# Altium footprint library FootPrintLib_2.PcbLib: 173 footprints (part 11 of 11)
Each footprint in its own frame and in the unit in brackets; x right, y up, seen from the top. Pads: shape width x height; smd on the part's side, far side on the other; paste and mask are expansions set on the pad; w line width, h text height; cw(c..) or ccw(c..) is an arc to the next point about the centre after c.
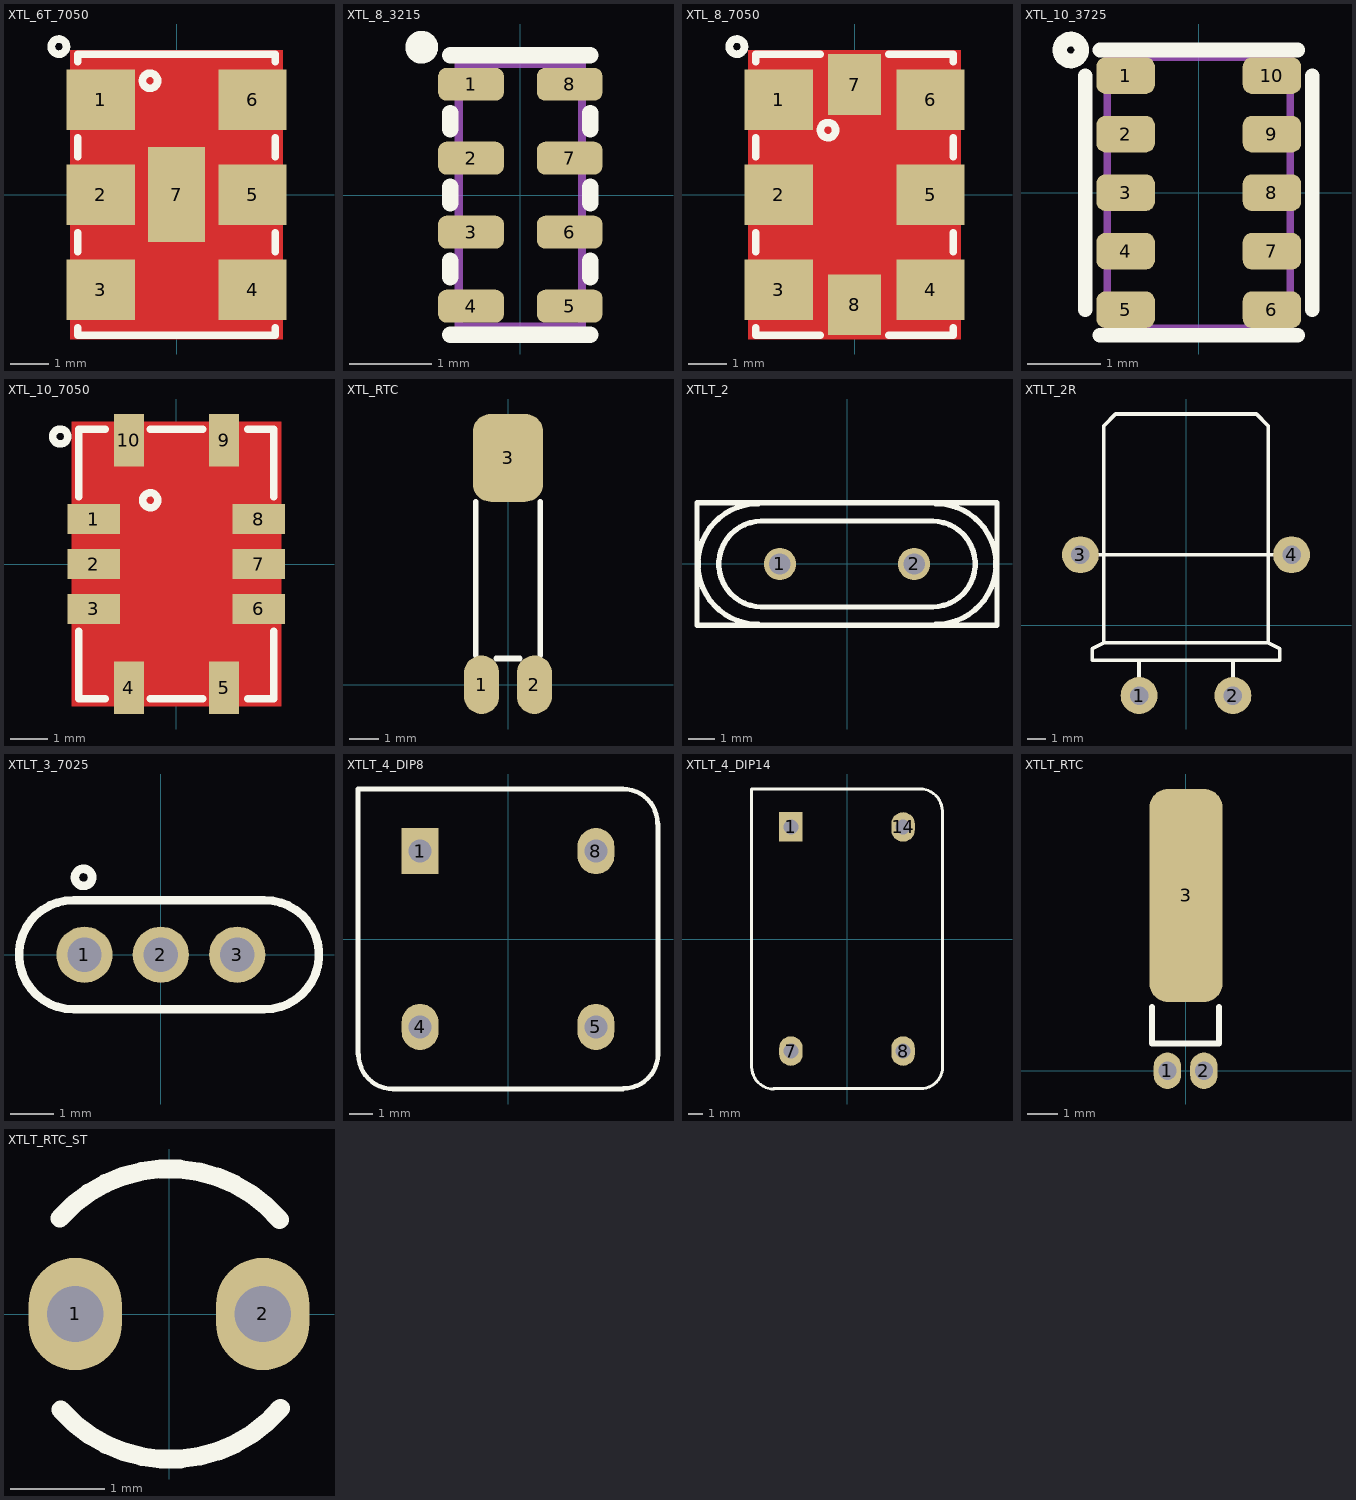
[diagram p10: the footprints below, top view; thin cyan lines are the x and y axes]

## XTL_6T_7050 [mm] "SiT9102 7X5 WITH CENTER-PAD"
pads (7):
  rect 1.8x1.6 smd: 1(-2,2.5) 2(-2,0) 3(-2,-2.5) 4(2,-2.5) 5(2,0) 6(2,2.5)
  rect 1.5x2.5 smd: 7(0,0)
Top Layer:
  pour cut-out: -2.8,3.8 -2.8,-3.8 2.8,-3.8 2.8,3.8
Top Overlay:
  circle w0.2: c-3.1,3.9 r0.2
  circle w0.2: c-0.7,3 r0.2
  lines w0.2: -2.6,-3.5 -2.6,-3.7 2.6,-3.7 2.6,-3.5 ; -2.6,-1.5 -2.6,-1 ; -2.6,1 -2.6,1.5 ; -2.6,3.5 -2.6,3.7 2.6,3.7 2.6,3.5 ; 2.6,-1.5 2.6,-1 ; 2.6,1 2.6,1.5
Mechanical 13:
  circle w0.1: c-1.55,2.55 r0.5
  lines w0.1: -2.5,-3.5 2.5,-3.5 2.5,3.5 -2.5,3.5 -2.5,-3.5
3D body: height 1.5, standoff 0.01, extent -2.5,-3.5 2.5,3.5

## XTL_8_3215 [mm] "8-CLCC, 3.2X1.5X0.8mm, 0.9mm pitch"
height 0.8
pads (8):
  rrect50% 0.8x0.4 smd mask+0.1: 1(-0.6,1.35) 2(-0.6,0.45) 3(-0.6,-0.45) 4(-0.6,-1.35) 5(0.6,-1.35) 6(0.6,-0.45) 7(0.6,0.45) 8(0.6,1.35)
Top Overlay:
  circle w0.2: c-1.2,1.8 r0.1
  lines w0.2: -0.85,-1.7 0.85,-1.7 ; -0.85,-1 -0.85,-0.8 ; -0.85,-0.1 -0.85,0.1 ; -0.85,0.8 -0.85,1 ; -0.85,1.7 0.85,1.7 ; 0.85,-1 0.85,-0.8 ; 0.85,-0.1 0.85,0.1 ; 0.85,0.8 0.85,1
Mechanical 13:
  lines w0.1: -0.75,-1.6 -0.75,1.6 0.75,1.6 0.75,-1.6 -0.75,-1.6
3D body "AB-RTCMC-32.768kHz-AIGZ-S7.STEP": height 0.8, standoff 0, extent -0.75,-1.6 0.75,1.6

## XTL_8_7050 [mm] "CRYSTAL OSCILLATOR 7X5mm"
pads (8):
  rect 1.8x1.6 smd: 1(-2,2.5) 2(-2,0) 3(-2,-2.5) 4(2,-2.5) 5(2,0) 6(2,2.5)
  rect 1.4x1.6 smd: 7(0,2.9) 8(0,-2.9)
Top Layer:
  pour cut-out: -2.8,3.8 -2.8,-3.8 2.8,-3.8 2.8,3.8
Top Overlay:
  circle w0.2: c-3.1,3.9 r0.2
  circle w0.2: c-0.7,1.7 r0.2
  lines w0.2: -2.6,-3.5 -2.6,-3.7 -0.9,-3.7 ; -2.6,-1.5 -2.6,-1 ; -2.6,1 -2.6,1.5 ; -2.6,3.5 -2.6,3.7 -0.9,3.7 ; 0.9,-3.7 2.6,-3.7 2.6,-3.5 ; 0.9,3.7 2.6,3.7 2.6,3.5 ; 2.6,-1.5 2.6,-1 ; 2.6,1 2.6,1.5
Mechanical 13:
  circle w0.1: c-1.55,2.55 r0.5
  lines w0.1: -2.5,-3.5 2.5,-3.5 2.5,3.5 -2.5,3.5 -2.5,-3.5
3D body: height 1.5, standoff 0.01, extent -2.5,-3.5 2.5,3.5

## XTL_10_3725 [mm] "10-VDFN, 3.7X2.5X0.9mm, 0.8mm pitch"
height 0.8
pads (10):
  rrect50% 0.8x0.5 smd mask+0.1: 1(-1,1.6) 2(-1,0.8) 3(-1,0) 4(-1,-0.8) 5(-1,-1.6) 6(1,-1.6) 7(1,-0.8) 8(1,0) 9(1,0.8) 10(1,1.6)
Top Overlay:
  circle w0.2: c-1.75,1.95 r0.15
  lines w0.2: -1.55,-1.6 -1.55,1.6 ; -1.35,-1.95 1.35,-1.95 ; -1.35,1.95 1.35,1.95 ; 1.55,-1.6 1.55,1.6
Mechanical 13:
  lines w0.1: -1.25,-1.85 -1.25,1.85 1.25,1.85 1.25,-1.85 -1.25,-1.85
3D body "AB-RTCMC-32.768kHz-EOA9-S3.STEP": height 0.9, standoff 0, extent -1.25,-1.85 1.25,1.85

## XTL_10_7050 [mm] "CRYSTAL OSCILLATOR 7.0X5.0mm 10PAD"
pads (10):
  rect 1.4x0.8 smd: 1(-2.2,1.2) 2(-2.2,0) 3(-2.2,-1.2) 6(2.2,-1.2) 7(2.2,0) 8(2.2,1.2)
  rect 0.8x1.4 smd: 4(-1.27,-3.3) 5(1.27,-3.3) 9(1.27,3.3) 10(-1.27,3.3)
Top Layer:
  pour cut-out: -2.8,3.8 -2.8,-3.8 2.8,-3.8 2.8,3.8
Top Overlay:
  circle w0.2: c-3.1,3.4 r0.2
  circle w0.2: c-0.7,1.7 r0.2
  lines w0.2: -2.6,-1.8 -2.6,-3.6 -1.9,-3.6 ; -2.6,1.8 -2.6,3.6 -1.9,3.6 ; -0.7,-3.6 0.7,-3.6 ; -0.7,3.6 0.7,3.6 ; 1.9,-3.6 2.6,-3.6 2.6,-1.8 ; 1.9,3.6 2.6,3.6 2.6,1.8
Mechanical 13:
  circle w0.1: c-1.55,2.55 r0.5
  lines w0.1: -2.5,-3.5 2.5,-3.5 2.5,3.5 -2.5,3.5 -2.5,-3.5
3D body "7X5-CFPT-126_v14.step": height 2, standoff 0, extent -2.5,-3.5 2.5,3.5

## XTL_RTC [mm] "AB26TRB, AB26TRJ, AB26TRQ"
height 2.3
pads (3):
  oval 1.2x2 smd mask+0.1: 1(-0.9,0) 2(0.9,0)
  rrect50% 2.4x3 smd: 3(0,7.75)
Top Overlay:
  lines w0.2: -1.1,1 -1.1,6.25 ; -0.4,0.9 0.4,0.9 ; 1.1,1 1.1,6.25
3D body "User Library-DT-26-1.step": height 2, standoff -2, extent -1,-0.1 1,7.04

## XTLT_2 [mm] "Crystal PTH HC49S"
height 5.08
pads (2):
  round 1.2 / inner oval 1.2x2 / far side oval 1.2x2 hole 0.8: 1(-2.5,0)
  round 1.2 / inner round 1.2 / far side oval 1.2x2 hole 0.8: 2(2.5,0)
Top Overlay:
  lines w0.2: -3.302,-2.25 cw(c-3.302,0) -3.302,2.25 ; -3.2,-1.6 3.2,-1.6 ; -3.2,1.6 3.2,1.6 ; -3.175,-1.6 cw(c-3.175,0) -3.175,1.6 ; 3.175,-1.6 ccw(c3.175,0) 3.175,1.6 ; 3.302,-2.25 ccw(c3.302,0) 3.302,2.25 ; -5.588,-2.286 5.588,-2.286 5.588,2.286 -5.588,2.286 -5.588,-2.286
3D body "HC-49_LT_THT_16MHz.step": height 3.6, standoff -1.99, extent -5.668,-2.325 5.669,2.325

## XTLT_2R [mm] "Crystal PTH HC49S 11x4.5x13mm, bended"
height 13
pads (4):
  round 2 hole 1: 1(-2.54,-3.81) 2(2.54,-3.81) 3(-5.715,3.81) 4(5.715,3.81)
Top Overlay:
  circle w0.2: c5.715,3.81 r0.635
  circle w0.2: c-5.715,3.81 r0.635
  lines w0.2: -5.715,3.81 5.715,3.81 ; -2.54,-3.81 -2.54,-1.905 ; 2.54,-3.81 2.54,-1.905 ; -4.445,-0.953 -5.08,-1.27 -5.08,-1.905 5.08,-1.905 5.08,-1.27 4.445,-0.953 ; -4.445,-0.953 -4.445,10.795 -3.81,11.43 3.81,11.43 4.445,10.795 4.445,-0.953 ; -4.445,-0.953 4.445,-0.953

## XTLT_3_7025 [mm] "Crystal 3p, pitch:1.8mm, 7x2.5mm"
pads (3):
  round 1.308 hole 0.8: 1(-1.778,0) 2(0,0) 3(1.778,0)
Top Overlay:
  circle w0.2: c-1.8,1.8 r0.2
  lines w0.2: -2.032,-1.27 cw(c-2.032,0) -2.032,1.27 2.413,1.27 cw(c2.413,0) 2.413,-1.27 -2.032,-1.27

## XTLT_4_DIP8 [mm] "HO-22, 13X13mm, Crystal oscillator DIP-8"
pads (4):
  rect 1.6x2 hole 1: 1(-3.81,3.81)
  oval 1.6x2 hole 1: 4(-3.81,-3.81) 5(3.81,-3.81) 8(3.81,3.81)
Top Overlay:
  lines w0.2: -6.5,-5 -6.5,6.5 5,6.5 ; -6.48,-5 ccw(c-4.98,-5) -4.98,-6.5 ; -5,-6.5 5,-6.5 ; 4.98,6.5 cw(c4.98,5) 6.48,5 ; 5,-6.48 ccw(c5,-4.98) 6.5,-4.98 6.5,5
3D body "User Library-OSC_DIP-8.STEP": height 5.6, standoff -1, extent -6.35,-6.35 6.35,6.35

## XTLT_4_DIP14 [mm] "HO-12, 20X13mm, Crystal oscillator DIP-14"
pads (4):
  rect 1.6x2 hole 1: 1(-3.81,7.62)
  oval 1.6x2 hole 1: 7(-3.81,-7.62) 8(3.81,-7.62) 14(3.81,7.62)
Top Overlay:
  lines w0.2: -6.5,-8.7 -6.5,10.2 4.98,10.2 cw(c4.98,8.7) 6.48,8.7 ; -6.48,-8.7 ccw(c-4.98,-8.7) -4.98,-10.2 ; -4.98,-10.18 5,-10.18 ccw(c5,-8.68) 6.5,-8.68 6.5,8.7
3D body "User Library-OSC_DIP-14.step": height 4.6, standoff -2, extent -6.35,-10.1 6.35,10.1

## XTLT_RTC [mm] "CRYSTAL RTC SLEEP, AB26T"
height 2.3
pads (3):
  oval 0.9x1.2 hole 0.6 mask+0.1: 1(-0.6,0) 2(0.6,0)
  rrect50% 2.4x7 smd: 3(0.011,5.763)
Top Overlay:
  lines w0.2: -1.1,2.1 -1.1,0.9 1.1,0.9 1.1,2.1
3D body "User Library-DT-26-1.step": height 2, standoff -2, extent -1,-0.1 1,7.04

## XTLT_RTC_ST [mm] "CRYSTAL RTC STAND, AB26T"
height 2.3
pads (2):
  oval 1x1.2 hole 0.6: 1(-1,0) 2(1,0)
Top Overlay:
  lines w0.2: -1.165,1.022 cw(c0,0) 1.179,1.006 ; -1.155,-1.022 ccw(c0.01,0) 1.189,-1.006
3D body "Crystal TH.STEP": height 8.98, standoff -1.8, extent -1.725,-1.6 1.725,1.6